# Altium schematic symbol library IGAS Elements.SchLib: 172 symbols
Pins are listed as number, name and electrical type; pins without a type are passive.

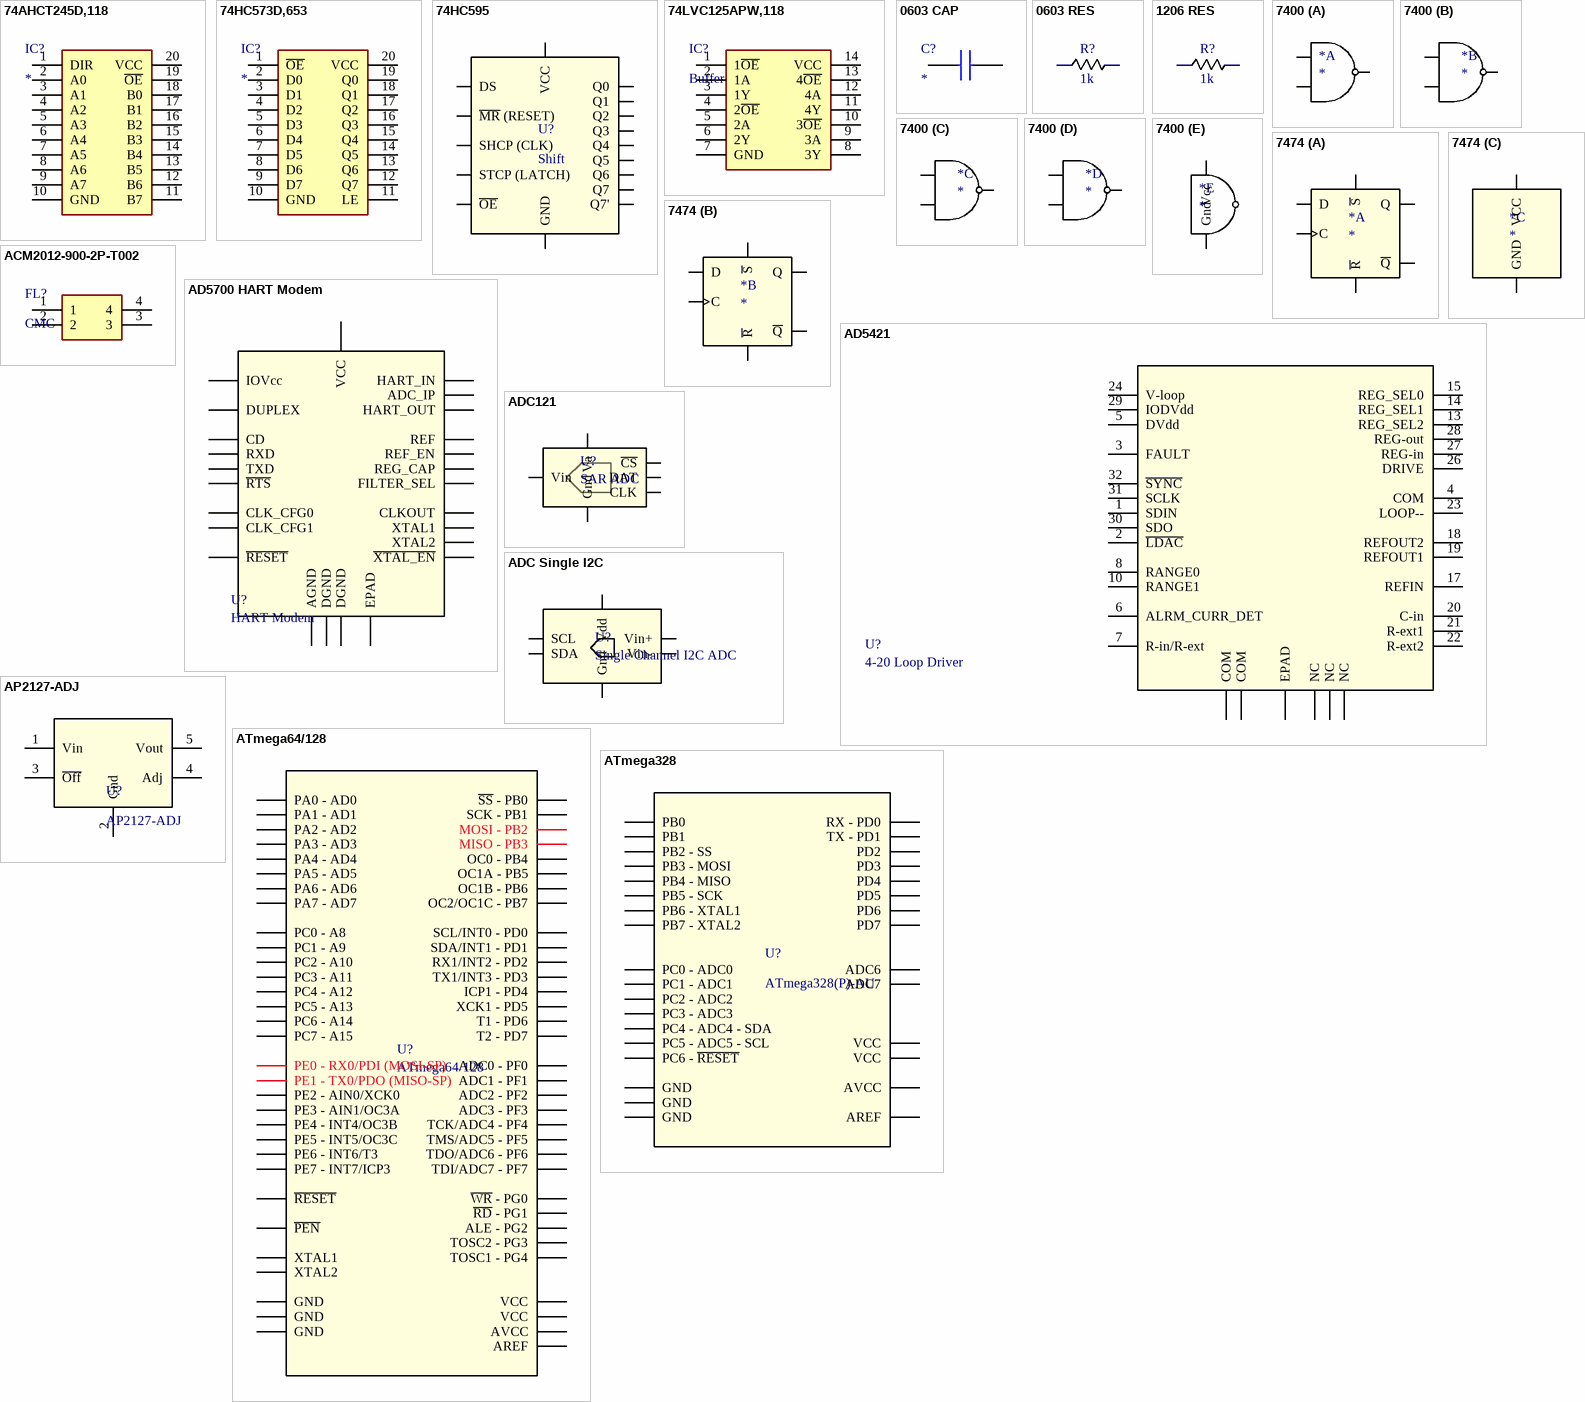
[diagram p0: symbols 74AHCT245D,118 to ATmega328]

## 74AHCT245D,118
designator IC?
74AHCT245D,118; Manufacturer_Name: Nexperia; Datasheet Link: https://assets.nexperia.com/documents/data-sheet/74AHC_AHCT245.pdf; Height: 2.65mm; Manufacturer_Part_Number: 74AHCT245D,118; Mouser Part Number: 771-AHCT245D118; Mouser Price/Stock: https://www.mouser.co.uk/ProductDetail/Nexperia/74AHCT245D118?qs=P62ublwmbi%252BdeATfD%2FmNZw%3D%3D; Arrow Part Number: 74AHCT245D,118; Arrow Price/Stock: https://www.arrow.com/en/products/74ahct245d118/nexperia
footprint SO20
pins: 1 DIR, 2 A0, 3 A1, 4 A2, 5 A3, 6 A4, 7 A5, 8 A6, 9 A7, 10 GND, 11 B7, 12 B6, 13 B5, 14 B4, 15 B3, 16 B2, 17 B1, 18 B0, 19 ~{OE}, 20 VCC

## 74HC573D,653
designator IC?
Integrated Circuit; Manufacturer_Name: Nexperia; Manufacturer_Part_Number: 74HC573D,653; Datasheet Link: https://assets.nexperia.com/documents/data-sheet/74HC_HCT573.pdf; Height: 2.65mm; Mouser Part Number: 771-74HC573D-T; Mouser Price/Stock: https://www.mouser.co.uk/ProductDetail/Nexperia/74HC573D653?qs=P62ublwmbi8WfKX2wZR8SA%3D%3D; Arrow Part Number: 74HC573D,653; Arrow Price/Stock: https://www.arrow.com/en/products/74hc573d653/nexperia?utm_currency=USD&region=europe
footprint SOIC-20N
pins: 1 ~{OE}, 2 D0, 3 D1, 4 D2, 5 D3, 6 D4, 7 D5, 8 D6, 9 D7, 10 GND, 11 LE, 12 Q7, 13 Q6, 14 Q5, 15 Q4, 16 Q3, 17 Q2, 18 Q1, 19 Q0, 20 VCC

## 74HC595
designator U?, comment Shift
SN74HC595DR
footprint SOIC16
pins: 1 Q1, 2 Q2, 3 Q3, 4 Q4, 5 Q5, 6 Q6, 7 Q7, 8 GND, 9 Q7', 10 ~{MR} (RESET), 11 SHCP (CLK), 12 STCP (LATCH), 13 ~{OE}, 14 DS, 15 Q0, 16 VCC

## 74LVC125APW,118
designator IC?, comment Buffer
74LVC125APW,118; Manufacturer_Name: Nexperia; Datasheet Link: https://assets.nexperia.com/documents/data-sheet/74LVC125A.pdf; Height: 1.1mm; Manufacturer_Part_Number: 74LVC125APW,118; Mouser Part Number: 771-74LVC125APW-T; Mouser Price/Stock: https://www.mouser.co.uk/ProductDetail/Nexperia/74LVC125APW118?qs=me8TqzrmIYV8VAZOS5KVLw%3D%3D; Arrow Part Number: 74LVC125APW,118; Arrow Price/Stock: https://www.arrow.com/en/products/74lvc125apw118/nexperia?utm_currency=USD&region=nac
footprint SOP-14N
pins: 1 1~{OE}, 2 1A, 3 1Y, 4 2~{OE}, 5 2A, 6 2Y, 7 GND, 8 3Y, 9 3A, 10 3~{OE}, 11 4Y, 12 4A, 13 4~{OE}, 14 VCC

## 0603 CAP
designator C?
Capacitor; Manufacturer_Name: Murata Electronics; Manufacturer_Part_Number: GRM188R72A103KA01D; Datasheet Link: https://search.murata.co.jp/Ceramy/image/img/A01X/G101/ENG/GRM188R72A103KA01-01A.pdf; Height: 0.9mm; Mouser Part Number: 81-GRM188R72A103KA1D; Mouser Price/Stock: https://www.mouser.co.uk/ProductDetail/Murata-Electronics/GRM188R72A103KA01D?qs=krk%2F6UQjCzAtl9phuocbug%3D%3D; Arrow Part Number: GRM188R72A103KA01D; Arrow Price/Stock: https://www.arrow.com/en/products/grm188r72a103ka01d/murata-manufacturing?region=europe
footprint 0603 CAP
pins: 1, 2

## 0603 RES
designator R?, comment 1k
footprint 0603 RES
pins: 1, 2

## 1206 RES
designator R?, comment 1k
footprint J011D21BNL (Ehernet Port J011D21BNL by YAGEO)
pins: 1, 2

## 7400
designator *
footprint SOIC-14
part A pins: 1 1A, 2 1B, 3 1Y
part B pins: 4 2A, 5 2B, 6 2Y
part C pins: 8 3Y, 9 3A, 10 3B
part D pins: 11 4Y, 12 4A, 13 4B
part E pins: 7 Gnd, 14 Vcc

## 7474
designator *
footprint SOIC-14
part A pins: 1 ~{R}, 2 D, 3 C, 4 ~{S}, 5 Q, 6 ~{Q}
part B pins: 8 ~{Q}, 9 Q, 10 ~{S}, 11 C, 12 D, 13 ~{R}
part C pins: 7 GND, 14 VCC

## ACM2012-900-2P-T002
designator FL?, comment CMC
ACM2012-900-2P-T002; Manufacturer_Name: TDK; Datasheet Link: https://product.tdk.com/system/files/dam/doc/product/emc/emc/cmf_cmc/catalog/cmf_commercial_signal_acm2012_en.pdf; Height: 1.3mm; Manufacturer_Part_Number: ACM2012-900-2P-T002; Mouser Part Number: 810-ACM20129002PT002; Mouser Price/Stock: https://www.mouser.co.uk/ProductDetail/TDK/ACM2012-900-2P-T002?qs=vhEaPADELPHXWaCJFQVZjQ%3D%3D; Arrow Part Number: ACM2012-900-2P-T002; Arrow Price/Stock: https://www.arrow.com/en/products/acm2012-900-2p-t002/tdk?utm_currency=USD&region=europe
footprint ACM20129002PT002
pins: 1, 2, 3, 4

## AD5421
designator U?, comment 4-20 Loop Driver
16-bit 4-20 mA DAC
pins: 1 SDIN, 2 ~{LDAC}, 3 FAULT, 4 COM, 5 DVdd, 6 ALRM_CURR_DET, 7 R-in/R-ext, 8 RANGE0, 9 NC, 10 RANGE1, 11 COM, 12 COM, 13 REG_SEL2, 14 REG_SEL1, 15 REG_SEL0, 16 NC, 17 REFIN, 18 REFOUT2, 19 REFOUT1, 20 C-in, 21 R-ext1, 22 R-ext2, 23 LOOP--, 24 V-loop, 25 NC, 26 DRIVE, 27 REG-in, 28 REG-out, 29 IODVdd, 30 SDO, 31 SCLK, 32 ~{SYNC}, 33 EPAD

## AD5700 HART Modem
designator U?, comment HART Modem
pins: 1 ~{XTAL_EN}, 2 CLKOUT, 3 CLK_CFG0, 4 CLK_CFG1, 5 ~{RESET}, 6 CD, 7 TXD, 8 ~{RTS}, 9 DUPLEX, 10 RXD, 11 IOVcc, 12 DGND, 13 REG_CAP, 14 HART_OUT, 15 REF, 16 HART_IN, 17 ADC_IP, 18 VCC, 19 AGND, 20 XTAL2, 21 XTAL1, 22 DGND, 23 REF_EN, 24 FILTER_SEL, 25 EPAD

## ADC121
designator U?, comment SAR ADC
ADC121 SAR ADC
pins: 1 Va, 2 Gnd, 3 Vin, 4 CLK, 5 DAT, 6 ~{CS}

## ADC Single I2C
designator U?, comment Single Channel I2C ADC
pins: 1 Vin+, 2 Gnd, 3 SCL, 4 SDA, 5 Vdd, 6 Vin-

## AP2127-ADJ
designator U?
LDO Adjustable AP2127 Series
footprint SOT-23-5
pins: 1 Vin, 2 Gnd, 3 ~{Off}, 4 Adj, 5 Vout

## ATmega64/128
designator U?
ATmega64/128A-AU
pins: 1 ~{PEN}, 2 PE0 - RX0/PDI (MOSI-SP), 3 PE1 - TX0/PDO (MISO-SP), 4 PE2 - AIN0/XCK0, 5 PE3 - AIN1/OC3A, 6 PE4 - INT4/OC3B, 7 PE5 - INT5/OC3C, 8 PE6 - INT6/T3, 9 PE7 - INT7/ICP3, 10 ~{SS} - PB0, 11 SCK - PB1, 12 MOSI - PB2, 13 MISO - PB3, 14 OC0 - PB4, 15 OC1A - PB5, 16 OC1B - PB6, 17 OC2/OC1C - PB7, 18 TOSC2 - PG3, 19 TOSC1 - PG4, 20 ~{RESET}, 21 VCC (power), 22 GND (power), 23 XTAL2, 24 XTAL1, 25 SCL/INT0 - PD0, 26 SDA/INT1 - PD1, 27 RX1/INT2 - PD2, 28 TX1/INT3 - PD3, 29 ICP1 - PD4, 30 XCK1 - PD5, 31 T1 - PD6, 32 T2 - PD7, 33 ~{WR} - PG0, 34 ~{RD} - PG1, 35 PC0 - A8, 36 PC1 - A9, 37 PC2 - A10, 38 PC3 - A11, 39 PC4 - A12, 40 PC5 - A13, 41 PC6 - A14, 42 PC7 - A15, 43 ALE - PG2, 44 PA7 - AD7, 45 PA6 - AD6, 46 PA5 - AD5, 47 PA4 - AD4, 48 PA3 - AD3, 49 PA2 - AD2, 50 PA1 - AD1, 51 PA0 - AD0, 52 VCC (power), 53 GND (power), 54 TDI/ADC7 - PF7, 55 TDO/ADC6 - PF6, 56 TMS/ADC5 - PF5, 57 TCK/ADC4 - PF4, 58 ADC3 - PF3, 59 ADC2 - PF2, 60 ADC1 - PF1, 61 ADC0 - PF0, 62 AREF (power), 63 GND (power), 64 AVCC (power)

## ATmega328
designator U?, comment ATmega328(P)-AU
AVR ATmega328 MCU
pins: 1 PD3, 2 PD4, 3 GND, 4 VCC, 5 GND, 6 VCC, 7 PB6 - XTAL1, 8 PB7 - XTAL2, 9 PD5, 10 PD6, 11 PD7, 12 PB0, 13 PB1, 14 PB2 - SS, 15 PB3 - MOSI, 16 PB4 - MISO, 17 PB5 - SCK, 18 AVCC, 19 ADC6, 20 AREF, 21 GND, 22 ADC7, 23 PC0 - ADC0, 24 PC1 - ADC1, 25 PC2 - ADC2, 26 PC3 - ADC3, 27 PC4 - ADC4 - SDA, 28 PC5 - ADC5 - SCL, 29 PC6 - ~{RESET}, 30 RX - PD0, 31 TX - PD1, 32 PD2

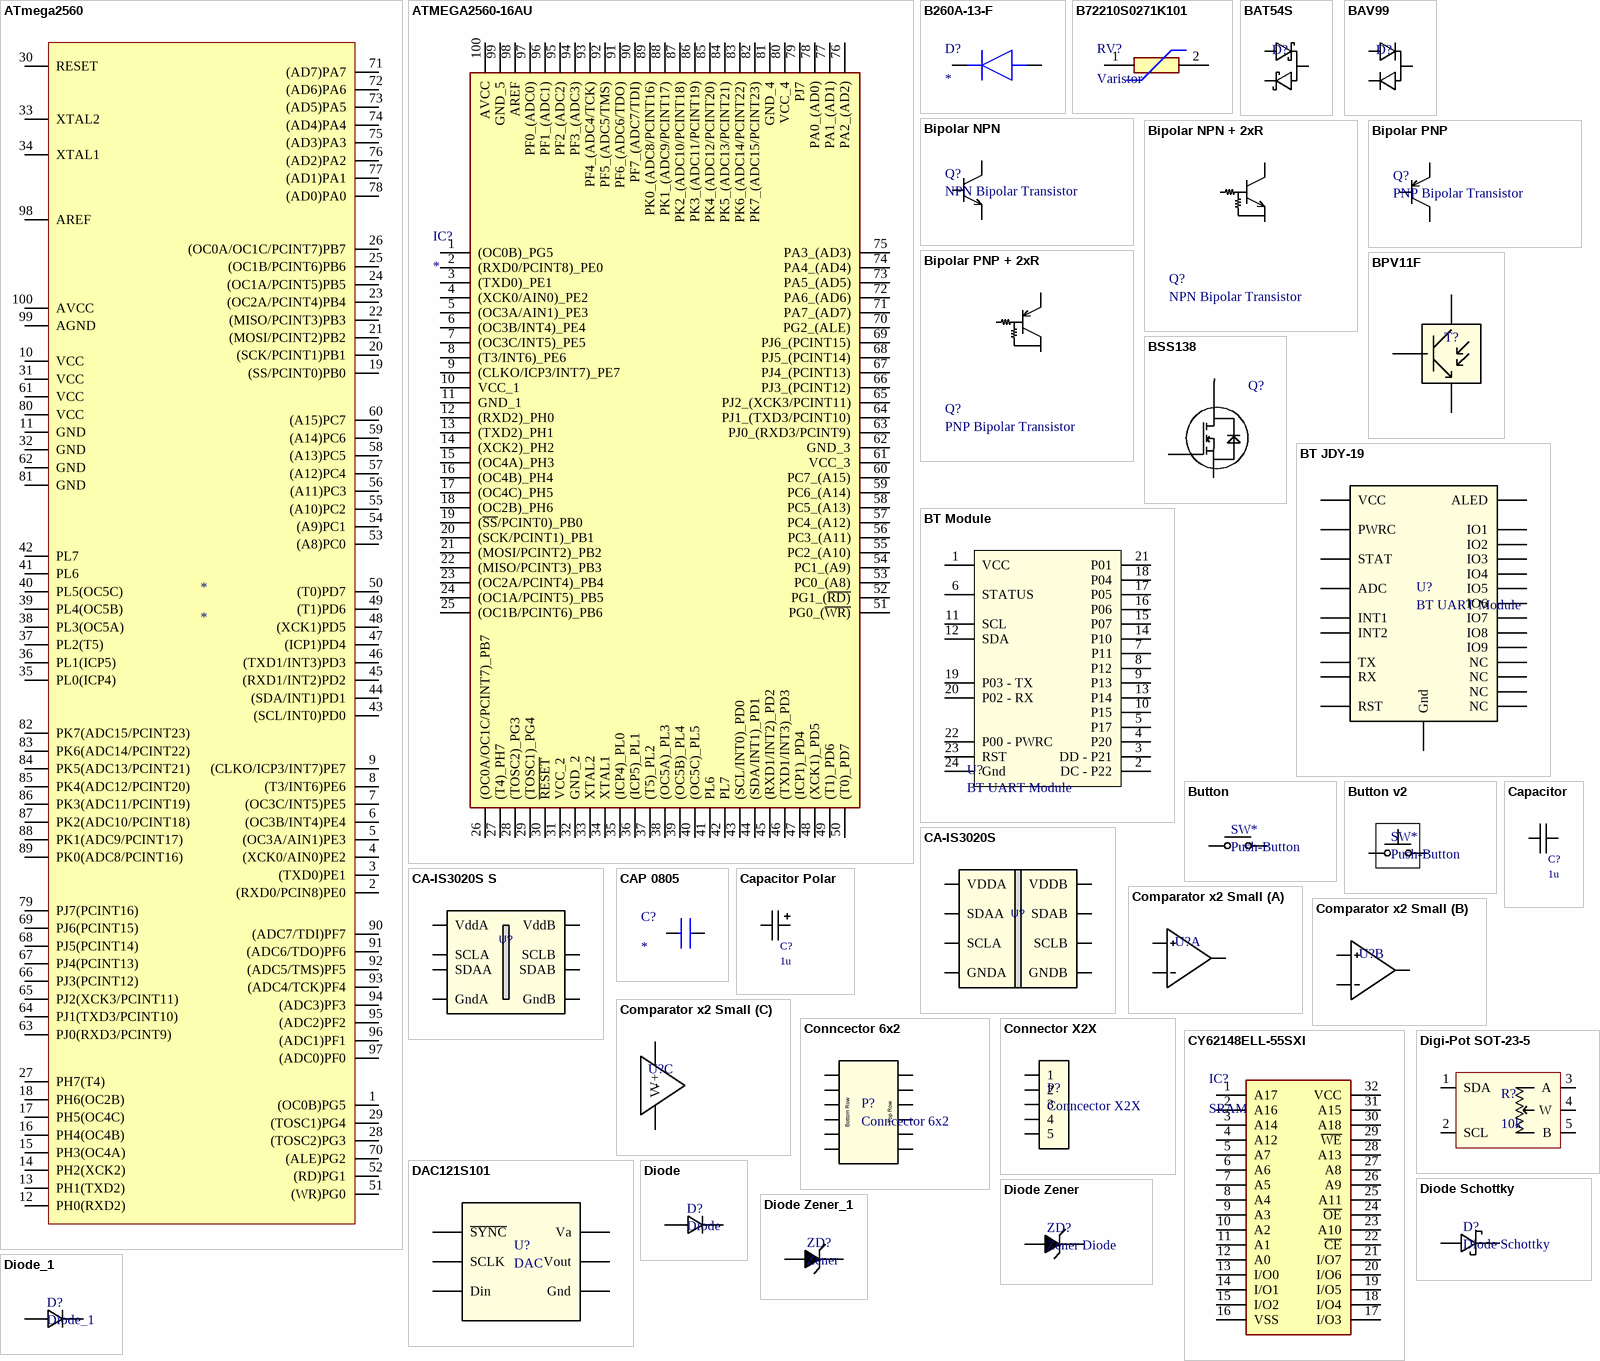
[diagram p1: symbols ATmega2560 to Diode_1]

## ATmega2560
designator *
pins: 1 (OC0B)PG5, 2 (RXD0/PCIN8)PE0, 3 (TXD0)PE1, 4 (XCK0/AIN0)PE2, 5 (OC3A/AIN1)PE3, 6 (OC3B/INT4)PE4, 7 (OC3C/INT5)PE5, 8 (T3/INT6)PE6, 9 (CLKO/ICP3/INT7)PE7, 10 VCC, 11 GND, 12 PH0(RXD2), 13 PH1(TXD2), 14 PH2(XCK2), 15 PH3(OC4A), 16 PH4(OC4B), 17 PH5(OC4C), 18 PH6(OC2B), 19 (SS/PCINT0)PB0, 20 (SCK/PCINT1)PB1, 21 (MOSI/PCINT2)PB2, 22 (MISO/PCINT3)PB3, 23 (OC2A/PCINT4)PB4, 24 (OC1A/PCINT5)PB5, 25 (OC1B/PCINT6)PB6, 26 (OC0A/OC1C/PCINT7)PB7, 27 PH7(T4), 28 (TOSC2)PG3, 29 (TOSC1)PG4, 30 RESET, 31 VCC, 32 GND, 33 XTAL2, 34 XTAL1, 35 PL0(ICP4), 36 PL1(ICP5), 37 PL2(T5), 38 PL3(OC5A), 39 PL4(OC5B), 40 PL5(OC5C), 41 PL6, 42 PL7, 43 (SCL/INT0)PD0, 44 (SDA/INT1)PD1, 45 (RXD1/INT2)PD2, 46 (TXD1/INT3)PD3, 47 (ICP1)PD4, 48 (XCK1)PD5, 49 (T1)PD6, 50 (T0)PD7, 51 (WR)PG0, 52 (RD)PG1, 53 (A8)PC0, 54 (A9)PC1, 55 (A10)PC2, 56 (A11)PC3, 57 (A12)PC4, 58 (A13)PC5, 59 (A14)PC6, 60 (A15)PC7, 61 VCC, 62 GND, 63 PJ0(RXD3/PCINT9), 64 PJ1(TXD3/PCINT10), 65 PJ2(XCK3/PCINT11), 66 PJ3(PCINT12), 67 PJ4(PCINT13), 68 PJ5(PCINT14), 69 PJ6(PCINT15), 70 (ALE)PG2, 71 (AD7)PA7, 72 (AD6)PA6, 73 (AD5)PA5, 74 (AD4)PA4, 75 (AD3)PA3, 76 (AD2)PA2, 77 (AD1)PA1, 78 (AD0)PA0, 79 PJ7(PCINT16), 80 VCC, 81 GND, 82 PK7(ADC15/PCINT23), 83 PK6(ADC14/PCINT22), 84 PK5(ADC13/PCINT21), 85 PK4(ADC12/PCINT20), 86 PK3(ADC11/PCINT19), 87 PK2(ADC10/PCINT18), 88 PK1(ADC9/PCINT17), 89 PK0(ADC8/PCINT16), 90 (ADC7/TDI)PF7, 91 (ADC6/TDO)PF6, 92 (ADC5/TMS)PF5, 93 (ADC4/TCK)PF4, 94 (ADC3)PF3, 95 (ADC2)PF2, 96 (ADC1)PF1, 97 (ADC0)PF0, 98 AREF, 99 AGND, 100 AVCC

## ATMEGA2560-16AU
designator IC?
Integrated Circuit; Manufacturer_Name: Microchip; Manufacturer_Part_Number: ATMEGA2560-16AU; Datasheet Link: https://datasheet.datasheetarchive.com/originals/distributors/Datasheets_SAMA/4a5a397fa76c39b5297f4121ace1d84e.pdf; Height: 1.2mm; Mouser Part Number: 556-ATMEGA2560-16AU; Mouser Price/Stock: https://www.mouser.co.uk/ProductDetail/Microchip-Technology/ATMEGA2560-16AU?qs=aqrrBurbvGciYmlAokFS0w%3D%3D; Arrow Part Number: ATMEGA2560-16AU; Arrow Price/Stock: null?region=nac
footprint QFP50P1600X1600X120-100N
footprint QFP-100N
pins: 1 (OC0B)_PG5, 2 (RXD0/PCINT8)_PE0, 3 (TXD0)_PE1, 4 (XCK0/AIN0)_PE2, 5 (OC3A/AIN1)_PE3, 6 (OC3B/INT4)_PE4, 7 (OC3C/INT5)_PE5, 8 (T3/INT6)_PE6, 9 (CLKO/ICP3/INT7)_PE7, 10 VCC_1, 11 GND_1, 12 (RXD2)_PH0, 13 (TXD2)_PH1, 14 (XCK2)_PH2, 15 (OC4A)_PH3, 16 (OC4B)_PH4, 17 (OC4C)_PH5, 18 (OC2B)_PH6, 19 (~{SS}/PCINT0)_PB0, 20 (SCK/PCINT1)_PB1, 21 (MOSI/PCINT2)_PB2, 22 (MISO/PCINT3)_PB3, 23 (OC2A/PCINT4)_PB4, 24 (OC1A/PCINT5)_PB5, 25 (OC1B/PCINT6)_PB6, 26 (OC0A/OC1C/PCINT7)_PB7, 27 (T4)_PH7, 28 (TOSC2)_PG3, 29 (TOSC1)_PG4, 30 ~{RESET}, 31 VCC_2, 32 GND_2, 33 XTAL2, 34 XTAL1, 35 (ICP4)_PL0, 36 (ICP5)_PL1, 37 (T5)_PL2, 38 (OC5A)_PL3, 39 (OC5B)_PL4, 40 (OC5C)_PL5, 41 PL6, 42 PL7, 43 (SCL/INT0)_PD0, 44 (SDA/INT1)_PD1, 45 (RXD1/INT2)_PD2, 46 (TXD1/INT3)_PD3, 47 (ICP1)_PD4, 48 (XCK1)_PD5, 49 (T1)_PD6, 50 (T0)_PD7, 51 PG0_(~{WR)}, 52 PG1_(~{RD)}, 53 PC0_(A8), 54 PC1_(A9), 55 PC2_(A10), 56 PC3_(A11), 57 PC4_(A12), 58 PC5_(A13), 59 PC6_(A14), 60 PC7_(A15), 61 VCC_3, 62 GND_3, 63 PJ0_(RXD3/PCINT9), 64 PJ1_(TXD3/PCINT10), 65 PJ2_(XCK3/PCINT11), 66 PJ3_(PCINT12), 67 PJ4_(PCINT13), 68 PJ5_(PCINT14), 69 PJ6_(PCINT15), 70 PG2_(ALE), 71 PA7_(AD7), 72 PA6_(AD6), 73 PA5_(AD5), 74 PA4_(AD4), 75 PA3_(AD3), 76 PA2_(AD2), 77 PA1_(AD1), 78 PA0_(AD0), 79 PJ7, 80 VCC_4, 81 GND_4, 82 PK7_(ADC15/PCINT23), 83 PK6_(ADC14/PCINT22), 84 PK5_(ADC13/PCINT21), 85 PK4_(ADC12/PCINT20), 86 PK3_(ADC11/PCINT19), 87 PK2_(ADC10/PCINT18), 88 PK1_(ADC9/PCINT17), 89 PK0_(ADC8/PCINT16), 90 PF7_(ADC7/TDI), 91 PF6_(ADC6/TDO), 92 PF5_(ADC5/TMS), 93 PF4_(ADC4/TCK), 94 PF3_(ADC3), 95 PF2_(ADC2), 96 PF1_(ADC1), 97 PF0_(ADC0), 98 AREF, 99 GND_5, 100 AVCC

## B260A-13-F
designator D?
Diode; Manufacturer_Name: Diodes Incorporated; Manufacturer_Part_Number: B260A-13-F; Datasheet Link: https://componentsearchengine.com/Datasheets/2/B260A-13-F.pdf; Height: 2.3mm; Mouser Part Number: 621-B260A-F; Mouser Price/Stock: https://www.mouser.co.uk/ProductDetail/Diodes-Incorporated/B260A-13-F?qs=9XwZYT68TnR%252B3fnyovGFLA%3D%3D; Arrow Part Number: B260A-13-F; Arrow Price/Stock: https://www.arrow.com/en/products/b260a-13-f/diodes-incorporated?region=nac
footprint DO-214AC / SMA - POL (DO-214AC - POLAR)
pins: 1 A, 2 K

## B72210S0271K101
designator RV?, comment Varistor
B72210-S 271-K101; Manufacturer_Name: TDK; Manufacturer_Part_Number: B72210S0271K101; Datasheet Link: https://product.tdk.com/system/files/dam/doc/product/protection/voltage/lead-disk-varistor/data_sheet/70/db/var/siov_leaded_standard.pdf; Mouser Part Number: 871-B72210S271K101; Mouser Price/Stock: https://www.mouser.co.uk/ProductDetail/EPCOS-TDK/B72210S0271K101?qs=dEfas%2FXlABJcVym03yTASg%3D%3D; Arrow Part Number: B72210S0271K101; Arrow Price/Stock: https://www.arrow.com/en/products/b72210s0271k101/tdk?utm_currency=USD&region=europe
footprint S10K275
pins: 1, 2

## BAT54S
designator D?
30V 200 mA SOT-23 double Schottky diodes in series connection.
footprint SOT-23
pins: 1 A1, 2 K2, 3 K1A2

## BAV99
designator D?, comment High-speed switching diode  (value not drawn)
Double Diode in series connection.
footprint SOT-23
pins: 1 A1, 2 K2, 3 K1A2

## Bipolar NPN
designator Q?, comment NPN Bipolar Transistor
pins: 1 B, 2 E, 3 C

## Bipolar NPN + 2xR
designator Q?, comment NPN Bipolar Transistor
pins: 1 B, 2 E, 3 C

## Bipolar PNP
designator Q?, comment PNP Bipolar Transistor
pins: 1 B, 2 E, 3 C

## Bipolar PNP + 2xR
designator Q?, comment PNP Bipolar Transistor
NPN Bipolar Transistor
pins: 1 B, 2 E, 3 C

## BPV11F
designator T?  (value not drawn)
footprint LED TH D5MM - 3 PINS (LED Through Hole D=5mm)
pins: 1 E, 2 C, 3 B

## BSS138
designator Q?, comment MOSFET-N  (value not drawn)
IRLML2502TR
footprint SOT-23
pins: 1 G, 2 S, 3 D

## BT JDY-19
designator U?, comment BT UART Module
JDY-19 Bluetooth UART Module
footprint BT JDY-08 (JDY-08 Bluetooth 4.0 BLE Module)
pins: 1 VCC, 2 NC, 3 ADC, 4 NC, 5 IO6, 6 STAT, 7 IO5, 8 IO4, 9 IO1, 10 IO2, 11 NC, 12 NC, 13 IO3, 14 IO7, 15 IO8, 16 IO9, 17 ALED, 18 INT1, 19 TX, 20 RX, 21 INT2, 22 PWRC, 23 RST, 24 Gnd

## BT Module
designator U?, comment BT UART Module
Bluetooth UART Module
footprint PLS-5 2.54
pins: 1 VCC, 2 DC - P22, 3 DD - P21, 4 P20, 5 P17, 6 STATUS, 7 P11, 8 P12, 9 P13, 10 P15, 11 SCL, 12 SDA, 13 P14, 14 P10, 15 P07, 16 P06, 17 P05, 18 P04, 19 P03 - TX, 20 P02 - RX, 21 P01, 22 P00 - PWRC, 23 RST, 24 Gnd

## Button
designator SW*, comment Push-Button
pins: 1 A, 2 B

## Button v2
designator SW*, comment Push-Button
pins: 1 A, 2 B

## CA-IS3020S
designator U?
I2C Isolator
pins: 1 VDDA, 2 SDAA, 3 SCLA, 4 GNDA, 5 GNDB, 6 SCLB, 7 SDAB, 8 VDDB

## CA-IS3020S S
designator U?
I2C Isolator
pins: 1 VddA, 2 SDAA, 3 SCLA, 4 GndA, 5 GndB, 6 SCLB, 7 SDAB, 8 VddB

## CAP 0805
designator C?
Capacitor; Manufacturer_Name: Murata Electronics; Manufacturer_Part_Number: GRM188R72A103KA01D; Datasheet Link: https://search.murata.co.jp/Ceramy/image/img/A01X/G101/ENG/GRM188R72A103KA01-01A.pdf; Height: 0.9mm; Mouser Part Number: 81-GRM188R72A103KA1D; Mouser Price/Stock: https://www.mouser.co.uk/ProductDetail/Murata-Electronics/GRM188R72A103KA01D?qs=krk%2F6UQjCzAtl9phuocbug%3D%3D; Arrow Part Number: GRM188R72A103KA01D; Arrow Price/Stock: https://www.arrow.com/en/products/grm188r72a103ka01d/murata-manufacturing?region=europe
footprint 0805 CAP
pins: 1, 2

## Capacitor
designator C?, comment 1u
Capacitor Non-Polar; Value: 1u
pins: 1, 2

## Capacitor Polar
designator C?, comment 1u
Capacitor Polar; Value: 1u
pins: 1, 2

## Comparator x2 Small
designator U?  (value not drawn)
part A pins: 1 +IN, 2 -IN, 3 OUT
part B pins: 4 +IN, 5 -IN, 6 OUT
part C pins: 7 V+, 8 V-

## Conncector 6x2
designator P?
MCD 1,5/6-G1-3,81 PCB Connector
footprint Connector 6x2
pins: 1, 2, 3, 4, 5, 6, 7, 8, 9, 10, 11, 12
text: Bottom Row; Top Row

## Connector X2X
designator P?, comment Conncector X2X
EMSTBA 2,5/ 5-G-5,08 PCB Connector
footprint Connector X2X (EMSTBA 2,5/ 5-G-5,08 PCB Connector)
pins: 1, 2, 3, 4, 5

## CY62148ELL-55SXI
designator IC?, comment SRAM
CY62148ELL-55SXI; Manufacturer_Name: Infineon; Datasheet Link: https://componentsearchengine.com/Datasheets/2/CY62148ELL-55SXI.pdf; Height: 2.997mm; Manufacturer_Part_Number: CY62148ELL-55SXI; Mouser Part Number: 727-CY62148ELL-55SXI; Mouser Price/Stock: https://www.mouser.co.uk/ProductDetail/Cypress-Semiconductor/CY62148ELL-55SXI?qs=k2piNBSag3%252BZl%2FeQyEY%2FXw%3D%3D; Arrow Part Number: CY62148ELL-55SXI; Arrow Price/Stock: https://www.arrow.com/en/products/cy62148ell-55sxi/cypress-semiconductor
footprint SOIC32
pins: 1 A17, 2 A16, 3 A14, 4 A12, 5 A7, 6 A6, 7 A5, 8 A4, 9 A3, 10 A2, 11 A1, 12 A0, 13 I/O0, 14 I/O1, 15 I/O2, 16 VSS, 17 I/O3, 18 I/O4, 19 I/O5, 20 I/O6, 21 I/O7, 22 ~{CE}, 23 A10, 24 ~{OE}, 25 A11, 26 A9, 27 A8, 28 A13, 29 ~{WE}, 30 A18, 31 A15, 32 VCC

## DAC121S101
designator U?, comment DAC
pins: 1 Vout, 2 Gnd, 3 Va, 4 Din, 5 SCLK, 6 ~{SYNC}

## Digi-Pot SOT-23-5
designator R?, comment 10k
SOT-23-5; Value: 10k
pins: 1 SDA (io), 2 SCL (io), 3 A, 4 W, 5 B

## Diode
designator D?
pins: 1 A, 2 C

## Diode Schottky
designator D?
pins: 1 A, 2 C

## Diode Zener
designator ZD?, comment Zener Diode
pins: 1 A, 2 C

## Diode Zener_1
designator ZD?, comment Zener
BZX84C5V1LT1G
footprint SOT-23
pins: 1 A, 3 C

## Diode_1
designator D?
1N4148WS
footprint SOD-323 (SC-76) - Reflow (SOD-323 (SC-76) for Reflow Soldering)
pins: 1 C, 2 A

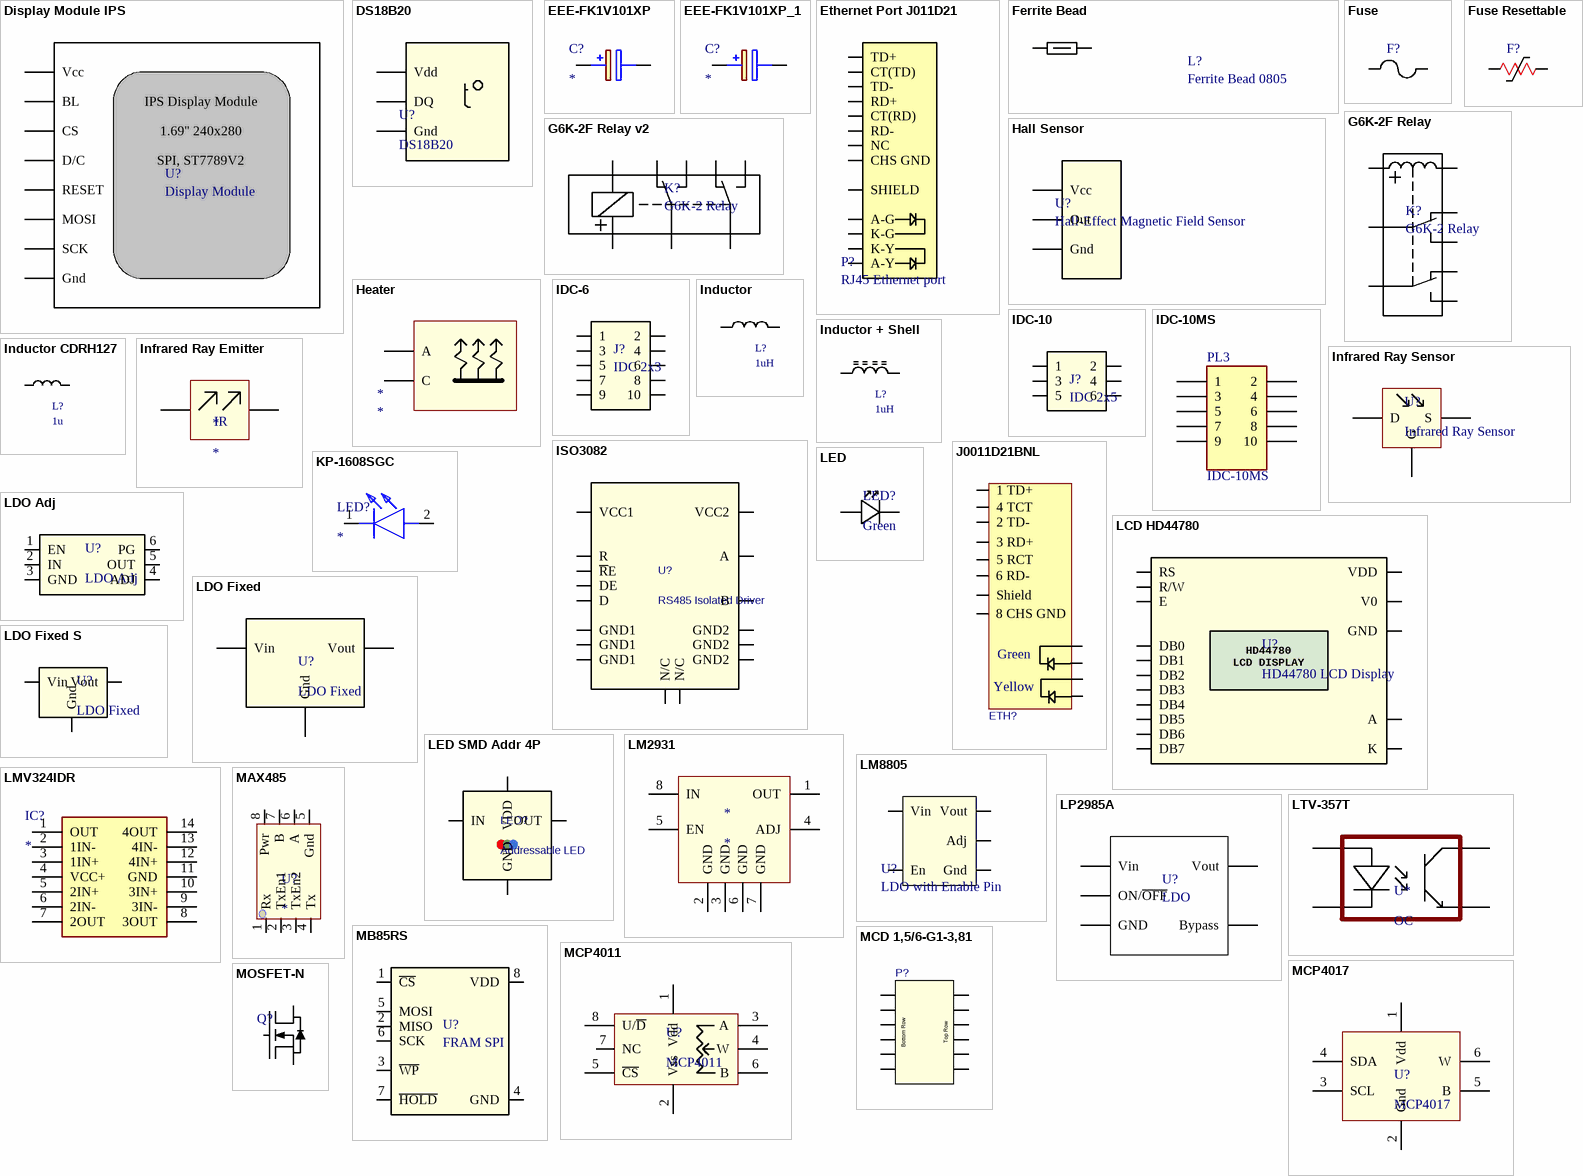
[diagram p2: symbols Display Module IPS to MOSFET-N]

## Display Module IPS
designator U?, comment Display Module
IPS Display Module 240x280
pins: 1 BL "Backlight", 2 CS "Chip (Slave) Select", 3 D/C "Data/Command", 4 RESET "Reset", 5 MOSI "Data Input", 6 SCK "Clock", 7 Vcc "Supply Voltage", 8 Gnd "Ground"
text: IPS Display Module; 1.69'' 240x280; SPI, ST7789V2

## DS18B20
designator U?
1-Wire DIgital Temp Sensor
pins: 1 Gnd, 2 DQ, 3 Vdd

## EEE-FK1V101XP
designator C?
Capacitor Polarised; Manufacturer_Name: Panasonic; Manufacturer_Part_Number: EEE-FK1V101XP; Datasheet Link: http://industrial.panasonic.com/cdbs/www-data/pdf/RDE0000/ABA0000C1181.pdf; Height: 7.8mm; Mouser Part Number: 667-EEE-FK1V101XP; Mouser Price/Stock: https://www.mouser.co.uk/ProductDetail/Panasonic/EEE-FK1V101XP?qs=qE6bgDGEOCu46KIpIgG5Yw%3D%3D; Arrow Part Number: EEE-FK1V101XP; Arrow Price/Stock: https://www.arrow.com/en/products/eee-fk1v101xp/panasonic?utm_currency=USD&region=europe
footprint S10K275
pins: 1 +, 2 -

## EEE-FK1V101XP_1
designator C?
EEEFK1C100R; Manufacturer_Name: Panasonic; Manufacturer_Part_Number: EEE-FK1V101XP; Datasheet Link: http://industrial.panasonic.com/cdbs/www-data/pdf/RDE0000/ABA0000C1181.pdf; Height: 7.8mm; Mouser Part Number: 667-EEE-FK1V101XP; Mouser Price/Stock: https://www.mouser.co.uk/ProductDetail/Panasonic/EEE-FK1V101XP?qs=qE6bgDGEOCu46KIpIgG5Yw%3D%3D; Arrow Part Number: EEE-FK1V101XP; Arrow Price/Stock: https://www.arrow.com/en/products/eee-fk1v101xp/panasonic?utm_currency=USD&region=europe
footprint EEE1AA220WR
pins: 1 +, 2 -

## Ethernet Port J011D21
designator P?, comment RJ45 Ethernet port
J0011D21BNL
pins: 1 TD+, 2 TD-, 3 RD+, 4 CT(TD), 5 CT(RD), 6 RD-, 7 NC, 8 CHS GND, 9 A-G, 10 K-G, 11 K-Y, 12 A-Y, SHIELD

## Ferrite Bead
designator L?, comment Ferrite Bead 0805
footprint BLM21AG102BH1J
pins: 1, 2

## Fuse
designator F?
pins: 1, 2

## Fuse Resettable
designator F?, comment MF-USMF005-2  (value not drawn)
Resettable Fuse Polyswitch
pins: 1, 2

## G6K-2F Relay
designator K?, comment G6K-2 Relay
2-pole/DPDT Relay
pins: 1, 2, 3, 4, 5, 6, 7, 8

## G6K-2F Relay v2
designator K?, comment G6K-2 Relay
2-pole/DPDT Relay
pins: 1, 2, 3, 4, 5, 6, 7, 8

## Hall Sensor
designator U?, comment Hall-Effect Magnetic Field Sensor
pins: 1 Vcc, 2 Out, 3 Gnd

## Heater
designator *
pins: 1 A, 2 C

## IDC-6
designator J?, comment IDC 2x3
IDC-6
pins: 1, 2, 3, 4, 5, 6, 7, 8, 9, 10

## IDC-10
designator J?, comment IDC 2x5
IDC-10
footprint IDC-6 (IDC 2x3)
pins: 1, 2, 3, 4, 5, 6

## IDC-10MS
designator PL3
DS1013-10SSiB1-B-0
footprint DS101310SSIB1B0
pins: 1, 2, 3, 4, 5, 6, 7, 8, 9, 10

## Inductor
designator L?, comment 1uH
Value: 1uH
pins: 1, 2

## Inductor + Shell
designator L?, comment 1uH
Value: 1uH
pins: 1, 2

## Inductor CDRH127
designator L?, comment 1u
SMD 0805; Value: 1u
footprint CDRH127
pins: 1, 2

## Infrared Ray Emitter
designator *
pins: 1, 2
text: IR

## Infrared Ray Sensor
designator U?
IRA-S210ST01
pins: 1 D "Supply Voltage", 2 S "Output", 3 G

## ISO3082
designator U?, comment RS485 Isolated Driver
pins: 1 VCC1, 2 GND1, 3 R, 4 ~{R}E, 5 DE, 6 D, 7 GND1, 8 GND1, 9 GND2, 10 GND2, 11 N/C, 12 A, 13 B, 14 N/C, 15 GND2, 16 VCC2

## J0011D21BNL
designator ETH?, comment Ethernet RJ-45 Port  (value not drawn)
J0011D21BNL
footprint J011D21BNL (Ehernet Port J011D21BNL by YAGEO)
pins: 1 1 TD+, 2 2 TD-, 3 3 RD+, 4 4 TCT, 5 5 RCT, 6 6 RD-, 8 8 CHS GND, 9 LDGr, 10 LDGr, 11 LDYE, 12 LDYE, SHIELD Shield
text: Green; Yellow

## KP-1608SGC
designator LED?
KP-1608SGC; Manufacturer_Name: Kingbright; Datasheet Link: KP-1608SGC; Height: 1.2mm; Manufacturer_Part_Number: KP-1608SGC; Mouser Part Number: N/A; Mouser Price/Stock: https://www.mouser.co.uk/ProductDetail/Kingbright/KP-1608SGC?qs=2JU0tDl2GZ13Q%2F1QAsmViw%3D%3D; Arrow Part Number: KP-1608SGC; Arrow Price/Stock: https://www.arrow.com/en/products/kp-1608sgc/kingbright?utm_currency=USD&region=nac
footprint KP-1608SGC
pins: 1 K, 2 A

## LCD HD44780
designator U?, comment HD44780 LCD Display
footprint 74HC595 Led Driver
pins: 1 GND, 2 VDD, 3 V0, 4 RS, 5 R/W, 6 E, 7 DB0, 8 DB1, 9 DB2, 10 DB3, 11 DB4, 12 DB5, 13 DB6, 14 DB7, 15 A, 16 K
text: / HD44780 / LCD DISPLAY

## LDO Adj
designator U?
LDO Adjustable
pins: 1 EN, 2 IN, 3 GND, 4 ADJ, 5 OUT, 6 PG

## LDO Fixed
designator U?
pins: 1 Gnd, 2 Vout, 3 Vin

## LDO Fixed S
designator U?, comment LDO Fixed
footprint SOT-223
pins: 1 Gnd, 2 Vout, 3 Vin

## LED
designator LED?, comment Green
Value: Green
pins: 1 A, 2 C

## LED SMD Addr 4P
designator LED?, comment Addressable LED
pins: 1 VDD, 2 OUT, 3 GND, 4 IN

## LM2931
designator *
pins: 1 OUT, 2 GND, 3 GND, 4 ADJ, 5 EN, 6 GND, 7 GND, 8 IN

## LM8805
designator U?, comment LDO with Enable Pin
footprint SOT-23-5
pins: 1 Vin, 2 Gnd, 3 En, 4 Adj, 5 Vout

## LMV324IDR
designator IC?
Integrated Circuit; Manufacturer_Name: Texas Instruments; Manufacturer_Part_Number: LMV324IDR; Datasheet Link: https://www.ti.com/lit/ds/symlink/lmv324.pdf?ts=1614057377514&ref_url=https%253A%252F%252Fwww.ti.com%252Fstore%252Fti%252Fen%252Fp%252Fproduct%252F%253Fp%253DLMV324IDR; Height: 1.75mm; Mouser Part Number: 595-LMV324IDR; Mouser Price/Stock: https://www.mouser.co.uk/ProductDetail/Texas-Instruments/LMV324IDR?qs=q2XTDbzbm6Ccfg2cd2%252BySw%3D%3D; Arrow Part Number: LMV324IDR; Arrow Price/Stock: https://www.arrow.com/en/products/lmv324idr/texas-instruments?utm_currency=USD&region=nac
footprint SOIC127P600X175-14N
footprint SOIC14N
pins: 1 OUT, 2 1IN-, 3 1IN+, 4 VCC+, 5 2IN+, 6 2IN-, 7 2OUT, 8 3OUT, 9 3IN-, 10 3IN+, 11 GND, 12 4IN+, 13 4IN-, 14 4OUT

## LP2985A
designator U?, comment LDO
5V
pins: 1 Vin, 2 GND, 3 ON/~{OFF}, 4 Bypass, 5 Vout

## LTV-357T
designator U*, comment OC
LTV-357T
footprint LTV-357T; pin to pad Anode>1 Cathode>2 Collector>4 Emmiter>3
pins: Anode A, Cathode C, Collector C, Emmiter E

## MAX485
designator U?
footprint SOIC-8
pins: 1 Rx, 2 TxEn1, 3 TxEn2, 4 Tx, 5 Gnd, 6 A, 7 B, 8 Pwr

## MB85RS
designator U?, comment FRAM SPI
footprint SOIC-8
pins: 1 ~{CS}, 2 MISO, 3 ~{WP}, 4 GND, 5 MOSI, 6 SCK, 7 ~{HOLD}, 8 VDD

## MCD 1,5/6-G1-3,81
designator P?  (value not drawn)
MCD 1,5/6-G1-3,81 PCB Connector
footprint MCD 15.6-G1-3.81 (MCD 1,5/6-G1-3,81 PCB Connector)
pins: 1, 2, 3, 4, 5, 6, 7, 8, 9, 10, 11, 12
text: Bottom Row; Top Row

## MCP4011
designator U?
Digital Potentiometer MCP4017
pins: 1 Vdd, 2 Vss, 3 A, 4 W, 5 ~{CS}, 6 B, 7 NC, 8 U/~{D}

## MCP4017
designator U?
Digital Reostat MCP4017
pins: 1 Vdd, 2 Gnd, 3 SCL, 4 SDA, 5 B, 6 W

## MOSFET-N
designator Q?
N-Channel MOSFET
pins: 1 G, 2 S, 3 D

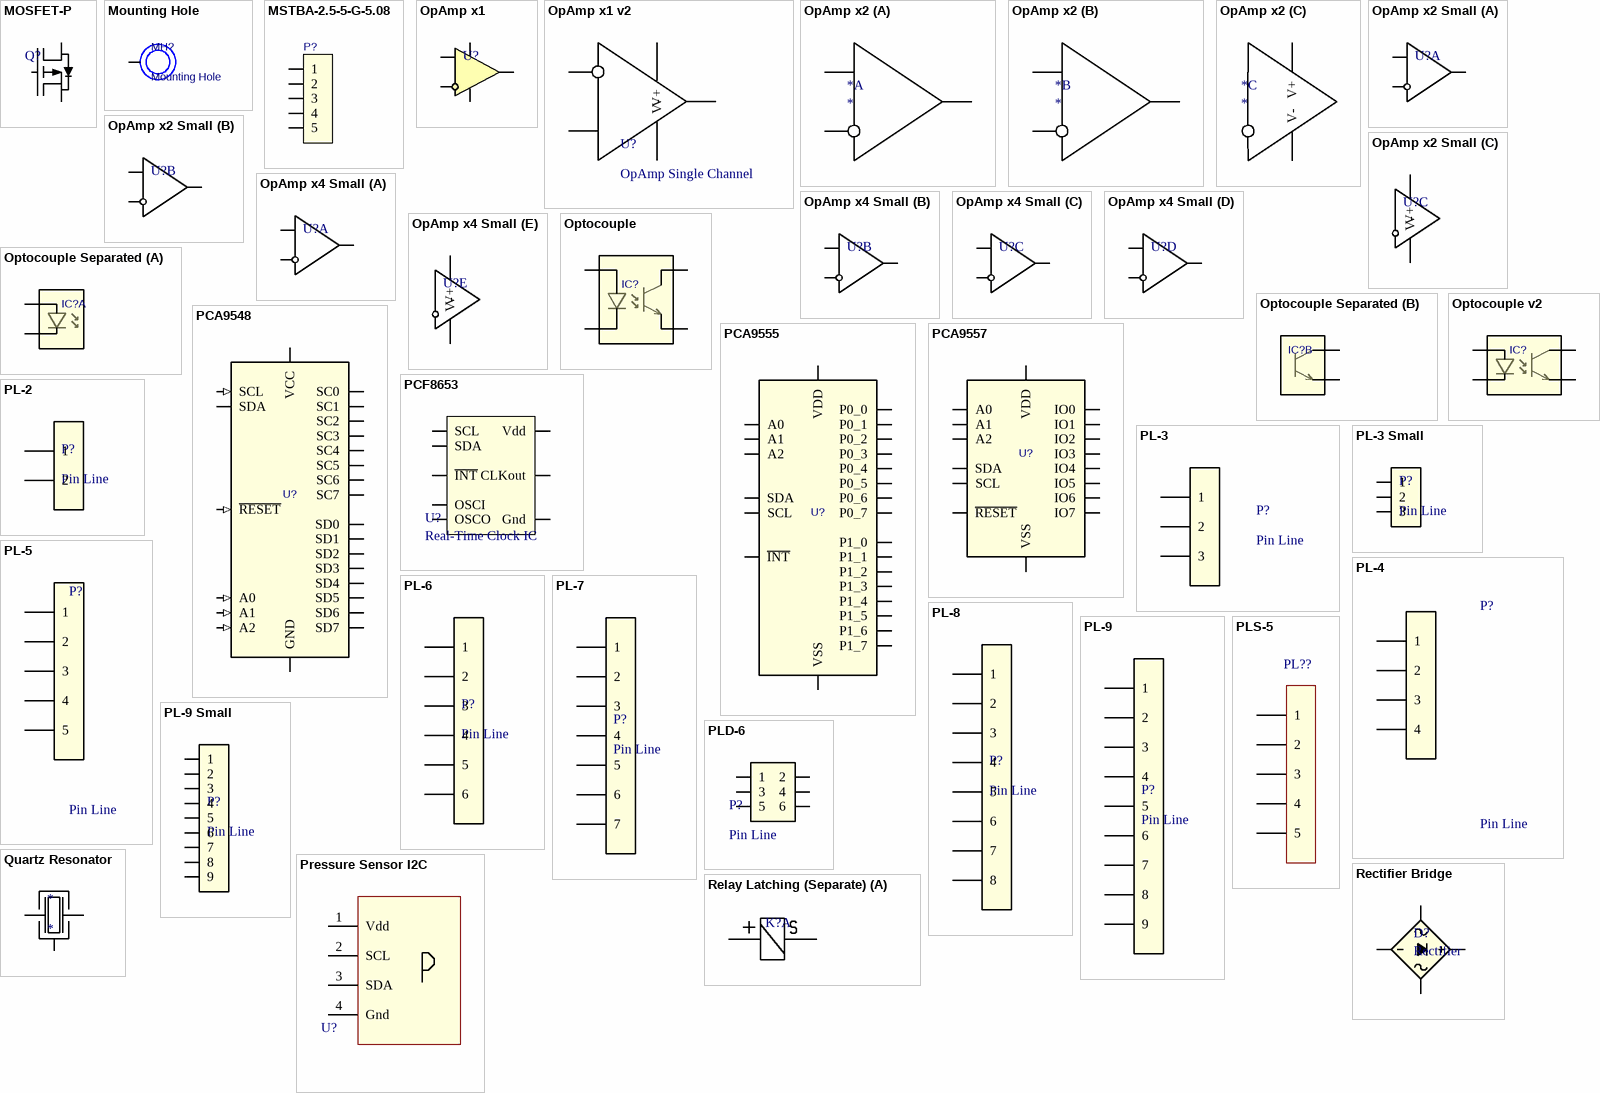
[diagram p3: symbols MOSFET-P to Relay Latching (Separate)]

## MOSFET-P
designator Q?
P-Channel MOSFET
pins: 1 G, 2 S, 3 D

## Mounting Hole
designator MH?
Mounting hole to secure PCB with a screw
pins: 1

## MSTBA-2.5-5-G-5.08
designator P?, comment Conncector X2X  (value not drawn)
MSTBA-2.5-5-G-5.08
footprint MSTBA-2.5-5-G-5.08 (EMSTBA 2,5/ 5-G-5,08 PCB Connector)
pins: 1, 2, 3, 4, 5

## OpAmp x1
designator U?, comment OpAmp Single Channel  (value not drawn)
pins: 1 OUT, 2 V-, 3 +IN, 4 -IN, 5 V+

## OpAmp x1 v2
designator U?, comment OpAmp Single Channel
pins: 1 +N, 2 -IN, 3 OUT, 4 V+, 5 V-

## OpAmp x2
designator *
part A pins: 1 +IN, 2 -IN, 3 OUT
part B pins: 4 +IN, 5 -IN, 6 OUT
part C pins: 7 V+, 8 V-

## OpAmp x2 Small
designator U?  (value not drawn)
part A pins: 1 +IN, 2 -IN, 3 OUT
part B pins: 4 +IN, 5 -IN, 6 OUT
part C pins: 7 V+, 8 V-

## OpAmp x4 Small
designator U?  (value not drawn)
part A pins: 1 +IN, 2 -IN, 3 OUT
part B pins: 4 +IN, 5 -IN, 6 OUT
part C pins: 7 +IN, 8 -IN, 9 OUT
part D pins: 10 +IN, 11 -IN, 12 OUT
part E pins: 13 V+, 14 V-

## Optocouple
designator IC?
pins: 1 A, 2 C, C 4, E 3

## Optocouple Separated
designator IC?
part A pins: 1 A, 2 C
part B pins: 3 E, 4 C

## Optocouple v2
designator IC?
pins: 1 A, 2 C, C 4, E 3

## PCA9548
designator U?
8-Channel I2C-Bus Switch
pins: 1 A0 (in), 2 A1 (in), 3 ~{RESET} (in), 4 SD0 (io), 5 SC0 (io), 6 SD1 (io), 7 SC1 (io), 8 SD2 (io), 9 SC2 (io), 10 SD3 (io), 11 SC3 (io), 12 GND (power), 13 SD4 (io), 14 SC4 (io), 15 SD5 (io), 16 SC5 (io), 17 SD6 (io), 18 SC6 (io), 19 SD7 (io), 20 SC7 (io), 21 A2 (in), 22 SCL (in), 23 SDA (io), 24 VCC (power)

## PCA9555
designator U?
16 400kHz I/O Expander
pins: 1 ~{INT}, 2 A1, 3 A2, 4 P0_0, 5 P0_1, 6 P0_2, 7 P0_3, 8 P0_4, 9 P0_5, 10 P0_6, 11 P0_7, 12 VSS, 13 P1_0, 14 P1_1, 15 P1_2, 16 P1_3, 17 P1_4, 18 P1_5, 19 P1_6, 20 P1_7, 21 A0, 22 SCL, 23 SDA, 24 VDD

## PCA9557
designator U?
8 400kHz I/O Expander
pins: 1 SCL, 2 SDA, 3 A0, 4 A1, 5 A2, 6 IO0, 7 IO1, 8 VSS, 9 IO2, 10 IO3, 11 IO4, 12 IO5, 13 IO6, 14 IO7, 15 ~{RESET}, 16 VDD

## PCF8653
designator U?, comment Real-Time Clock IC
footprint SOIC-8
pins: 1 OSCI, 2 OSCO, 3 ~{INT}, 4 Gnd, 5 SDA, 6 SCL, 7 CLKout, 8 Vdd

## PL-2
designator P?, comment Pin Line
pins: 1, 2

## PL-3
designator P?, comment Pin Line
pins: 1, 2, 3

## PL-3 Small
designator P?, comment Pin Line
pins: 1, 2, 3

## PL-4
designator P?, comment Pin Line
pins: 1, 2, 3, 4

## PL-5
designator P?, comment Pin Line
pins: 1, 2, 3, 4, 5

## PL-6
designator P?, comment Pin Line
pins: 1, 2, 3, 4, 5, 6

## PL-7
designator P?, comment Pin Line
pins: 1, 2, 3, 4, 5, 6, 7

## PL-8
designator P?, comment Pin Line
pins: 1, 2, 3, 4, 5, 6, 7, 8

## PL-9
designator P?, comment Pin Line
pins: 1, 2, 3, 4, 5, 6, 7, 8, 9

## PL-9 Small
designator P?, comment Pin Line
pins: 1, 2, 3, 4, 5, 6, 7, 8, 9

## PLD-6
designator P?, comment Pin Line
Double Row Pin Line
footprint PLD-6 2.54 (2 Rows x 3 Pins)
pins: 1, 2, 3, 4, 5, 6

## PLS-5
designator PL??, comment Pin Line  (value not drawn)
PLS-5 2.54
footprint PLS-5 2.54
pins: 1, 2, 3, 4, 5

## Pressure Sensor I2C
designator U?
Pressure Sensor I2C
pins: 1 Vdd, 2 SCL, 3 SDA, 4 Gnd

## Quartz Resonator
designator *
pins: 1, 2, 3

## Rectifier Bridge
designator D?, comment Rectifier
Rectifier Diode Bridge
pins: 1 P, 2 N, 3 AC1, 4 AC2

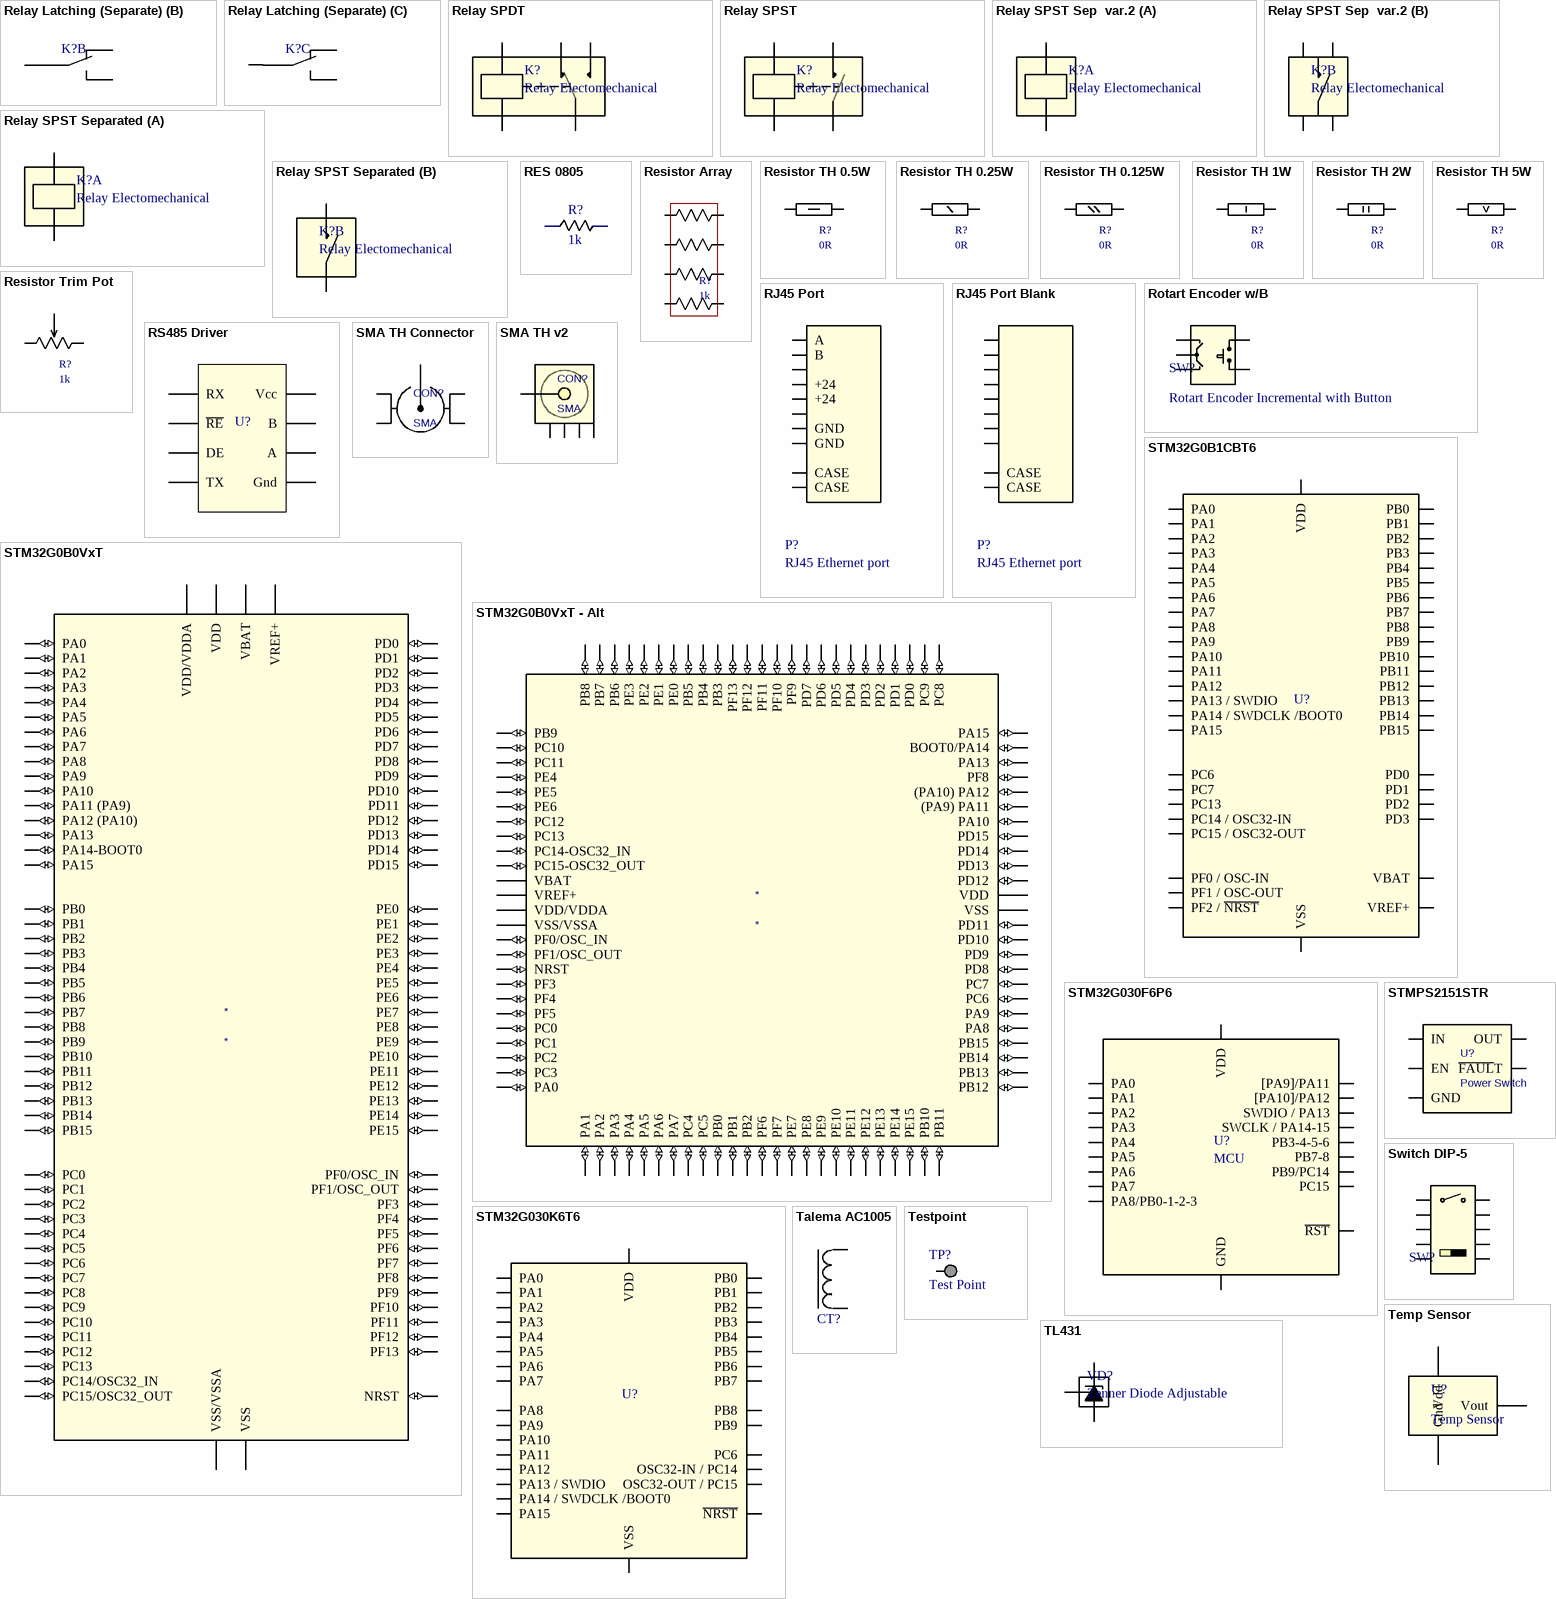
[diagram p4: symbols Relay Latching (Separate) to TL431]

## Relay Latching (Separate)
designator K?
Magnetic Latching Relay DPDT (Separate)
part A pins: 1, 8
part B pins: 2, 3, 4
part C pins: 5, 6, 7

## Relay SPDT
designator K?, comment Relay Electomechanical
pins: 1 A, 2 B, 3 NC, 4 COM, 5 NO

## Relay SPST
designator K?, comment Relay Electomechanical
pins: 1 A1, 2 A2, 3 COM, 4 NO

## Relay SPST Sep  var.2
designator K?, comment Relay Electomechanical
part A pins: 1 A1, 2 A2
part B pins: 3 COM, 4 NO, 5 NO, 6 COM

## Relay SPST Separated
designator K?, comment Relay Electomechanical
part A pins: 1 A1, 2 A2
part B pins: 3 COM, 4 NO

## RES 0805
designator R?, comment 1k
footprint 0603
footprint 0603 RES
pins: 1, 2

## Resistor Array
designator R?, comment 1k
Resistor Array
pins: 1, 2, 3, 4, 5, 6, 7, 8

## Resistor TH 0.5W
designator R?, comment 0R
Resistor Throw-Hole 0.5 Watt
pins: 1, 2

## Resistor TH 0.25W
designator R?, comment 0R
Resistor Throw-Hole 0.25 Watt
pins: 1, 2

## Resistor TH 0.125W
designator R?, comment 0R
Resistor Throw-Hole 0.125 Watt
pins: 1, 2

## Resistor TH 1W
designator R?, comment 0R
Resistor Throw-Hole 1 Watt
pins: 1, 2

## Resistor TH 2W
designator R?, comment 0R
Resistor Throw-Hole 2 Watts
pins: 1, 2

## Resistor TH 5W
designator R?, comment 0R
Resistor Throw-Hole 5 Watts
pins: 1, 2

## Resistor Trim Pot
designator R?, comment 1k
Trim Pot Resistor; Value: 1k
pins: 1, 2, 3

## RJ45 Port
designator P?, comment RJ45 Ethernet port
pins: 1 A, 2 B, 3, 4 +24, 5 +24, 6, 7 GND, 8 GND, 9 CASE, 10 CASE

## RJ45 Port Blank
designator P?, comment RJ45 Ethernet port
pins: 1, 2, 3, 4, 5, 6, 7, 8, 9 CASE, 10 CASE

## Rotart Encoder w/B
designator SW?, comment Rotart Encoder Incremental with Button
pins: 1 A, 2 C, 3 B, 4 B1, 5 B2

## RS485 Driver
designator U?  (value not drawn)
pins: 1 RX, 2 ~{RE}, 3 DE, 4 TX, 5 Gnd, 6 A, 7 B, 8 Vcc

## SMA TH Connector
designator CON?, comment SMA
SMA TH Connector 6x6 mm
pins: 1, 2, 3, 4, 5

## SMA TH v2
designator CON?, comment SMA
SMA TH Connector 6x6 mm
pins: 1, 2, 3, 4, 5

## STM32G0B0VxT
designator *
footprint TQFP-100
pins: 1 PB9 (io), 2 PC10 (io), 3 PC11 (io), 4 PE4 (io), 5 PE5 (io), 6 PE6 (io), 7 PC12 (io), 8 PC13 (io), 9 PC14/OSC32_IN (io), 10 PC15/OSC32_OUT (io), 11 VBAT (power), 12 VREF+ (power), 13 VDD/VDDA (power), 14 VSS/VSSA (power), 15 PF0/OSC_IN (io), 16 PF1/OSC_OUT (io), 17 NRST (io), 18 PF3 (io), 19 PF4 (io), 20 PF5 (io), 21 PC0 (io), 22 PC1 (io), 23 PC2 (io), 24 PC3 (io), 25 PA0 (io), 26 PA1 (io), 27 PA2 (io), 28 PA3 (io), 29 PA4 (io), 30 PA5 (io), 31 PA6 (io), 32 PA7 (io), 33 PC4 (io), 34 PC5 (io), 35 PB0 (io), 36 PB1 (io), 37 PB2 (io), 38 PF6 (io), 39 PF7 (io), 40 PE7 (io), 41 PE8 (io), 42 PE9 (io), 43 PE10 (io), 44 PE11 (io), 45 PE12 (io), 46 PE13 (io), 47 PE14 (io), 48 PE15 (io), 49 PB10 (io), 50 PB11 (io), 51 PB12 (io), 52 PB13 (io), 53 PB14 (io), 54 PB15 (io), 55 PA8 (io), 56 PA9 (io), 57 PC6 (io), 58 PC7 (io), 59 PD8 (io), 60 PD9 (io), 61 PD10 (io), 62 PD11 (io), 63 VSS (power), 64 VDD (power), 65 PD12 (io), 66 PD13 (io), 67 PD14 (io), 68 PD15 (io), 69 PA10 (io), 70 PA11 (PA9) (io), 71 PA12 (PA10) (io), 72 PF8 (io), 73 PA13 (io), 74 PA14-BOOT0 (io), 75 PA15 (io), 76 PC8 (io), 77 PC9 (io), 78 PD0 (io), 79 PD1 (io), 80 PD2 (io), 81 PD3 (io), 82 PD4 (io), 83 PD5 (io), 84 PD6 (io), 85 PD7 (io), 86 PF9 (io), 87 PF10 (io), 88 PF11 (io), 89 PF12 (io), 90 PF13 (io), 91 PB3 (io), 92 PB4 (io), 93 PB5 (io), 94 PE0 (io), 95 PE1 (io), 96 PE2 (io), 97 PE3 (io), 98 PB6 (io), 99 PB7 (io), 100 PB8 (io)

## STM32G0B0VxT - Alt
designator *
footprint TQFP-100
pins: 1 PB9 (io), 2 PC10 (io), 3 PC11 (io), 4 PE4 (io), 5 PE5 (io), 6 PE6 (io), 7 PC12 (io), 8 PC13 (io), 9 PC14-OSC32_IN (io), 10 PC15-OSC32_OUT (io), 11 VBAT (power), 12 VREF+ (power), 13 VDD/VDDA (power), 14 VSS/VSSA (power), 15 PF0/OSC_IN (io), 16 PF1/OSC_OUT (io), 17 NRST (io), 18 PF3 (io), 19 PF4 (io), 20 PF5 (io), 21 PC0 (io), 22 PC1 (io), 23 PC2 (io), 24 PC3 (io), 25 PA0 (io), 26 PA1 (io), 27 PA2 (io), 28 PA3 (io), 29 PA4 (io), 30 PA5 (io), 31 PA6 (io), 32 PA7 (io), 33 PC4 (io), 34 PC5 (io), 35 PB0 (io), 36 PB1 (io), 37 PB2 (io), 38 PF6 (io), 39 PF7 (io), 40 PE7 (io), 41 PE8 (io), 42 PE9 (io), 43 PE10 (io), 44 PE11 (io), 45 PE12 (io), 46 PE13 (io), 47 PE14 (io), 48 PE15 (io), 49 PB10 (io), 50 PB11 (io), 51 PB12 (io), 52 PB13 (io), 53 PB14 (io), 54 PB15 (io), 55 PA8 (io), 56 PA9 (io), 57 PC6 (io), 58 PC7 (io), 59 PD8 (io), 60 PD9 (io), 61 PD10 (io), 62 PD11 (io), 63 VSS (power), 64 VDD (power), 65 PD12 (io), 66 PD13 (io), 67 PD14 (io), 68 PD15 (io), 69 PA10 (io), 70 (PA9) PA11 (io), 71 (PA10) PA12 (io), 72 PF8 (io), 73 PA13 (io), 74 BOOT0/PA14 (io), 75 PA15 (io), 76 PC8 (io), 77 PC9 (io), 78 PD0 (io), 79 PD1 (io), 80 PD2 (io), 81 PD3 (io), 82 PD4 (io), 83 PD5 (io), 84 PD6 (io), 85 PD7 (io), 86 PF9 (io), 87 PF10 (io), 88 PF11 (io), 89 PF12 (io), 90 PF13 (io), 91 PB3 (io), 92 PB4 (io), 93 PB5 (io), 94 PE0 (io), 95 PE1 (io), 96 PE2 (io), 97 PE3 (io), 98 PB6 (io), 99 PB7 (io), 100 PB8 (io)

## STM32G0B1CBT6
designator U?
STM32G030 Series MCU (LQFP-48, 7x7)
footprint TQFP-48
pins: 1 PC13 (io), 2 PC14 / OSC32-IN (io), 3 PC15 / OSC32-OUT (io), 4 VBAT (io), 5 VREF+ (io), 6 VDD (power), 7 VSS (power), 8 PF0 / OSC-IN (io), 9 PF1 / OSC-OUT (io), 10 PF2 / ~{NRST} (io), 11 PA0 (io), 12 PA1 (io), 13 PA2 (io), 14 PA3 (io), 15 PA4 (io), 16 PA5 (io), 17 PA6 (io), 18 PA7 (io), 19 PB0 (io), 20 PB1 (io), 21 PB2 (io), 22 PB10 (io), 23 PB11 (io), 24 PB12 (io), 25 PB13 (io), 26 PB14 (io), 27 PB15 (io), 28 PA8 (io), 29 PA9 (io), 30 PC6 (io), 31 PC7 (io), 32 PA10 (io), 33 PA11 (io), 34 PA12 (io), 35 PA13 / SWDIO (io), 36 PA14 / SWDCLK /BOOT0 (io), 37 PA15 (io), 38 PD0 (io), 39 PD1 (io), 40 PD2 (io), 41 PD3 (io), 42 PB3 (io), 43 PB4 (io), 44 PB5 (io), 45 PB6 (io), 46 PB7 (io), 47 PB8 (io), 48 PB9 (io)

## STM32G030F6P6
designator U?, comment MCU
STM32G030 Series MCU (TSSOP-20)
footprint TSSOP-20
pins: 1 PB7-8, 2 PB9/PC14, 3 PC15, 4 VDD, 5 GND, 6 ~{RST}, 7 PA0, 8 PA1, 9 PA2, 10 PA3, 11 PA4, 12 PA5, 13 PA6, 14 PA7, 15 PA8/PB0-1-2-3, 16 [PA9]/PA11, 17 [PA10]/PA12, 18 SWDIO / PA13, 19 SWCLK / PA14-15, 20 PB3-4-5-6

## STM32G030K6T6
designator U?
STM32G030 Series MCU (LQFP-32)
footprint TQFP-32
pins: 1 PB9 (io), 2 OSC32-IN / PC14 (io), 3 OSC32-OUT / PC15 (io), 4 VDD (power), 5 VSS (power), 6 ~{NRST} (io), 7 PA0 (io), 8 PA1 (io), 9 PA2 (io), 10 PA3 (io), 11 PA4 (io), 12 PA5 (io), 13 PA6 (io), 14 PA7 (io), 15 PB0 (io), 16 PB1 (io), 17 PB2 (io), 18 PA8 (io), 19 PA9 (io), 20 PC6 (io), 21 PA10 (io), 22 PA11 (io), 23 PA12 (io), 24 PA13 / SWDIO (io), 25 PA14 / SWDCLK /BOOT0 (io), 26 PA15 (io), 27 PB3 (io), 28 PB4 (io), 29 PB5 (io), 30 PB6 (io), 31 PB7 (io), 32 PB8 (io)

## STMPS2151STR
designator U?, comment Power Switch
pins: 1 OUT, 2 GND, 3 ~{FAUL}T, 4 EN, 5 IN

## Switch DIP-5
designator SW?, comment DIP-Switch 5 Pins  (value not drawn)
DIP-Switch NDP-05
footprint Switch DIP-5 (DIP-Switch 5 Pins)
pins: 1, 2, 3, 4, 5, 6, 7, 8, 9, 10

## Talema AC1005
designator CT?, comment Current Transformer  (value not drawn)
AC-1005
footprint Talema AC1005 (Current Transformer Talema AC1005)
pins: 1, 2

## Temp Sensor
designator U?
Temperature Sensor
pins: 1 Vdd, 2 Vout, 3 Gnd

## Testpoint
designator TP?, comment Test Point
pins: TP

## TL431
designator VD?, comment Zenner Diode Adjustable
Adjustable Zenner Diode
pins: 1 A, 2 C, 3 Ref

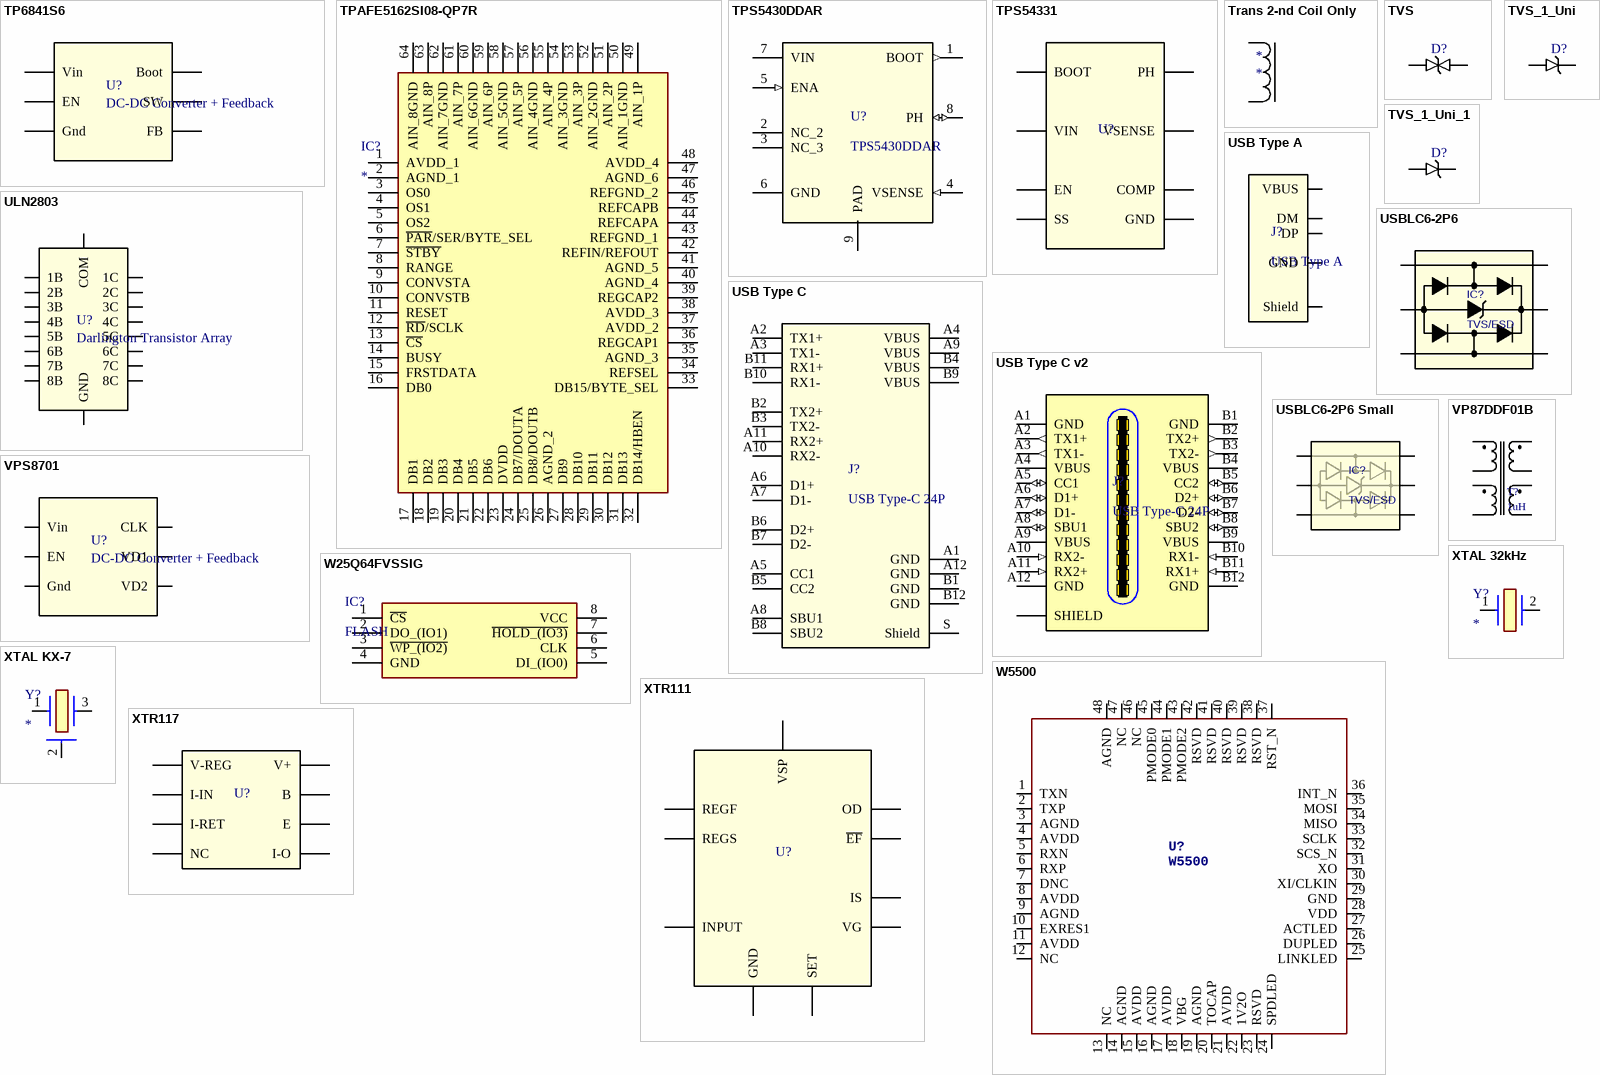
[diagram p5: symbols TP6841S6 to XTR117]

## TP6841S6
designator U?, comment DC-DC Converter + Feedback
DC-DC Stepdown Converter
pins: 1 Boot, 2 Gnd, 3 FB, 4 EN, 5 Vin, 6 SW

## TPAFE5162SI08-QP7R
designator IC?
TPAFE5162; Manufacturer_Name: 3Peak Incorporated; Manufacturer_Part_Number: TPAFE5162SI08-QP7R; Datasheet Link: https://static.3peak.com/res/doc/ds/Datasheet_TPAFE5162.pdf; Height: 1.6mm
footprint QFP50P1200X1200X160-64N
pins: 1 AVDD_1, 2 AGND_1, 3 OS0, 4 OS1, 5 OS2, 6 ~{PAR}/SER/BYTE_SEL, 7 ~{STBY}, 8 RANGE, 9 CONVSTA, 10 CONVSTB, 11 RESET, 12 ~{RD}/SCLK, 13 ~{CS}, 14 BUSY, 15 FRSTDATA, 16 DB0, 17 DB1, 18 DB2, 19 DB3, 20 DB4, 21 DB5, 22 DB6, 23 DVDD, 24 DB7/DOUTA, 25 DB8/DOUTB, 26 AGND_2, 27 DB9, 28 DB10, 29 DB11, 30 DB12, 31 DB13, 32 DB14/HBEN, 33 DB15/BYTE_SEL, 34 REFSEL, 35 AGND_3, 36 REGCAP1, 37 AVDD_2, 38 AVDD_3, 39 REGCAP2, 40 AGND_4, 41 AGND_5, 42 REFIN/REFOUT, 43 REFGND_1, 44 REFCAPA, 45 REFCAPB, 46 REFGND_2, 47 AGND_6, 48 AVDD_4, 49 AIN_1P, 50 AIN_1GND, 51 AIN_2P, 52 AIN_2GND, 53 AIN_3P, 54 AIN_3GND, 55 AIN_4P, 56 AIN_4GND, 57 AIN_5P, 58 AIN_5GND, 59 AIN_6P, 60 AIN_6GND, 61 AIN_7P, 62 AIN_7GND, 63 AIN_8P, 64 AIN_8GND

## TPS5430DDAR
designator U?
footprint SOIC8 pad
pins: 1 BOOT (out), 2 NC_2, 3 NC_3, 4 VSENSE (in), 5 ENA (in), 6 GND (power), 7 VIN (power), 8 PH (io), 9 PAD (power)

## TPS54331
designator U?, comment Step-Down (Buck) Converter  (value not drawn)
pins: 1 BOOT, 2 VIN, 3 EN, 4 SS, 5 VSENSE, 6 COMP, 7 GND, 8 PH

## Trans 2-nd Coil Only
designator *
pins: 1, 2

## TVS
designator D?, comment TVS Diode  (value not drawn)
TVS Protective Diode
pins: 1, 2

## TVS_1_Uni
designator D?, comment TVS Diode  (value not drawn)
TVS Protective Diode Uni
footprint DO-214AC / SMA - POL (DO-214AC - POLAR)
pins: 1, 2

## TVS_1_Uni_1
designator D?, comment TVS Diode  (value not drawn)
PESD5V0U1UB
footprint SOIC-8
pins: 1, 2

## ULN2803
designator U?, comment Darlington Transistor Array
pins: 1 1B, 2 2B, 3 3B, 4 4B, 5 5B, 6 6B, 7 7B, 8 8B, 9 GND, 10 COM, 11 8C, 12 7C, 13 6C, 14 5C, 15 4C, 16 3C, 17 2C, 18 1C

## USB Type A
designator J?
USB Type A 4P
pins: 1 VBUS, 2 DM, 3 DP, 4 GND, S Shield

## USB Type C
designator J?, comment USB Type-C 24P
pins: A1 GND, A2 TX1+, A3 TX1-, A4 VBUS, A5 CC1, A6 D1+, A7 D1-, A8 SBU1, A9 VBUS, A10 RX2-, A11 RX2+, A12 GND, B1 GND, B2 TX2+, B3 TX2-, B4 VBUS, B5 CC2, B6 D2+, B7 D2-, B8 SBU2, B9 VBUS, B10 RX1-, B11 RX1+, B12 GND, S Shield

## USB Type C v2
designator J?, comment USB Type-C 24P
pins: A1 GND (power), A2 TX1+ (out), A3 TX1- (out), A4 VBUS (power), A5 CC1 (io), A6 D1+ (io), A7 D1- (io), A8 SBU1 (io), A9 VBUS (power), A10 RX2- (in), A11 RX2+ (in), A12 GND (power), B1 GND (power), B2 TX2+ (out), B3 TX2- (out), B4 VBUS (power), B5 CC2 (io), B6 D2+ (io), B7 D2- (io), B8 SBU2 (io), B9 VBUS (power), B10 RX1- (in), B11 RX1+ (in), B12 GND (power), SHIELD (power)

## USBLC6-2P6
designator IC?, comment TVS/ESD
Electrostatic and Surge Protection
pins: 1, 2, 3, 4, 5, 6

## USBLC6-2P6 Small
designator IC?, comment TVS/ESD
Electrostatic and Surge Protection
pins: 1, 2, 3, 4, 5, 6

## VP87DDF01B
designator T?, comment 1uH
Value: 1uH
footprint VPT87DDF01B (2W Power Transformer)
pins: 1, 2, 3, 4, 5, 6, 7, 8

## VPS8701
designator U?, comment DC-DC Converter + Feedback
DC-DC Stepdown Converter
footprint SOT-23-6
pins: 1 EN, 2 Gnd, 3 CLK, 4 VD2, 5 Vin, 6 VD1

## W25Q64FVSSIG
designator IC?, comment FLASH
W25Q64FVSSIG; Manufacturer_Name: Winbond; Datasheet Link: https://www.winbond.com/resource-files/w25q64fv revq 06142016.pdf; Height: 2.16mm; Manufacturer_Part_Number: W25Q64FVSSIG; Mouser Part Number: N/A; Mouser Price/Stock: https://www.mouser.co.uk/ProductDetail/Winbond/W25Q64FVSSIG?qs=rkhjVJ6%2F3EIyeN0wt4XchA%3D%3D; Arrow Part Number: W25Q64FVSSIG; Arrow Price/Stock: https://www.arrow.com/en/products/w25q64fvssig/winbond-electronics
footprint SOIC127P790X216-8N
footprint SOIC-8
pins: 1 ~{CS}, 2 DO_(IO1), 3 ~{WP_(IO2)}, 4 GND, 5 DI_(IO0), 6 CLK, 7 ~{HOLD_(IO3)}, 8 VCC

## W5500
designator U?
footprint QFP-48
pins: 1 TXN, 2 TXP, 3 AGND, 4 AVDD, 5 RXN, 6 RXP, 7 DNC, 8 AVDD, 9 AGND, 10 EXRES1, 11 AVDD, 12 NC, 13 NC, 14 AGND, 15 AVDD, 16 AGND, 17 AVDD, 18 VBG, 19 AGND, 20 TOCAP, 21 AVDD, 22 1V2O, 23 RSVD, 24 SPDLED, 25 LINKLED, 26 DUPLED, 27 ACTLED, 28 VDD, 29 GND, 30 XI/CLKIN, 31 XO, 32 SCS_N, 33 SCLK, 34 MISO, 35 MOSI, 36 INT_N, 37 RST_N, 38 RSVD, 39 RSVD, 40 RSVD, 41 RSVD, 42 RSVD, 43 PMODE2, 44 PMODE1, 45 PMODE0, 46 NC, 47 NC, 48 AGND

## XTAL 32kHz
designator Y?
Crystal or Oscillator; Manufacturer_Name: NDK; Manufacturer_Part_Number: NX3215SA-32.768K-STD-MUA-14; Datasheet Link: https://www.mouser.com/datasheet/2/905/c_NX3215SA-STD-MUA-14_e-1317539.pdf; Height: 0.9mm; Mouser Part Number: 344-NX3215SA32768K14; Mouser Price/Stock: https://www.mouser.co.uk/ProductDetail/NDK/NX3215SA-32.768K-STD-MUA-14?qs=55YtniHzbhCTyKGENMTVrQ%3D%3D
footprint NX32 kHz
pins: 1, 2

## XTAL KX-7
designator Y?
Crystal or Oscillator; Manufacturer_Name: NDK; Manufacturer_Part_Number: NX3215SA-32.768K-STD-MUA-14; Datasheet Link: https://www.mouser.com/datasheet/2/905/c_NX3215SA-STD-MUA-14_e-1317539.pdf; Height: 0.9mm; Mouser Part Number: 344-NX3215SA32768K14; Mouser Price/Stock: https://www.mouser.co.uk/ProductDetail/NDK/NX3215SA-32.768K-STD-MUA-14?qs=55YtniHzbhCTyKGENMTVrQ%3D%3D
footprint XTAL KX-7
pins: 1, 2, 3

## XTR111
designator U?, comment 4-20 mA Driver  (value not drawn)
pins: 1 VSP, 2 IS, 3 VG, 4 REGS, 5 REGF, 6 INPUT, 7 SET, 8 ~{EF}, 9 OD, 10 GND

## XTR117
designator U?, comment 4-20 mA Driver  (value not drawn)
pins: 1 NC, 2 I-IN, 3 I-RET, 4 I-O, 5 E, 6 B, 7 V+, 8 V-REG